# Altium schematic symbol library GRM21BR61E106MA73L.SchLib: 1 symbol
Pins are listed as number, name and electrical type; pins without a type are passive.

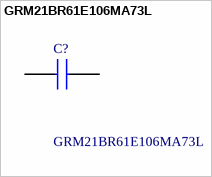
[diagram p0: symbol GRM21BR61E106MA73L]

## GRM21BR61E106MA73L
designator C?
Murata 0805 (2012M) 10uF MLCC 25V dc +/-20% SMD GRM21BR61E106MA73L; Manufacturer_Name: Murata Electronics; Geometry.Height: 1.45mm; Manufacturer_Part_Number: GRM21BR61E106MA73L; Mouser Part Number: 81-GRM21BR61E106MA3L; Mouser Price/Stock: https://www.mouser.co.uk/ProductDetail/Murata-Electronics/GRM21BR61E106MA73L?qs=2W5sgKM%2F371odLMyCilkag%3D%3D; Arrow Part Number: GRM21BR61E106MA73L; Arrow Price/Stock: https://www.arrow.com/en/products/grm21br61e106ma73l/murata-manufacturing?region=nac; Datasheet Link: http://www.murata.com/~/media/webrenewal/support/library/catalog/products/capacitor/mlcc/c02e.pdf
footprint CAPC2012X145N
pins: 1, 2